# Altium schematic symbol library Integrated Circuits.SchLib: 138 symbols (part 1 of 4)
Pins are listed as number, name and electrical type; pins without a type are passive.

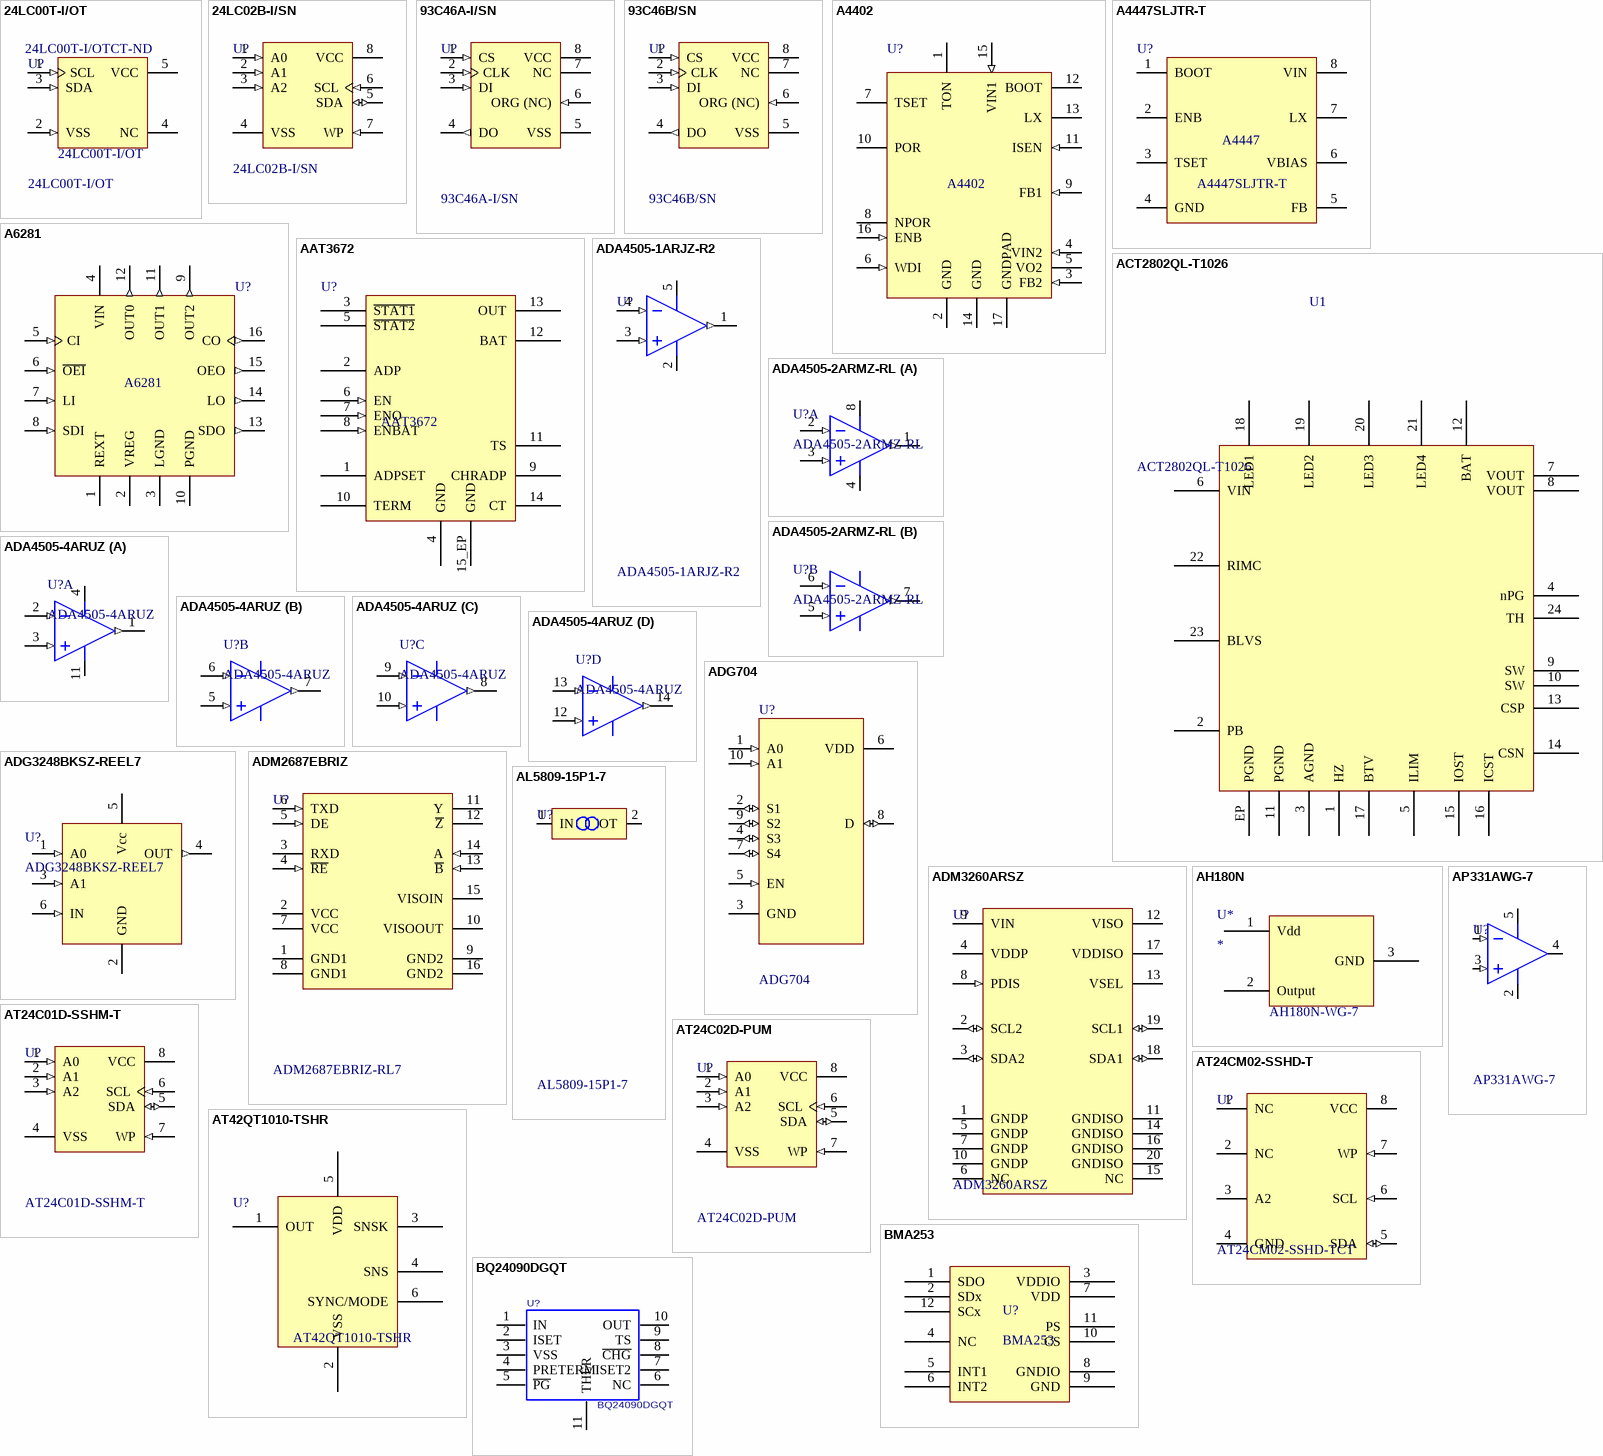
[diagram p0: symbols 24LC00T-I/OT to BQ24090DGQT]

## 24LC00T-I/OT
designator U?  Supplier Part Number 1: 24LC00T-I/OTCT-ND
IC, EEPROM, 128BIT, 400KHz, SOT23-5; Manufacturer: Microchip Technology; PackageDescription: IC EEPROM 128BIT 400KHZ SOT23-5; ComponentLink1Description: Supplier Link; ComponentLink1URL: https://www.digikey.com/products/en?keywords=24LC00T-I/OTCT-ND; HelpURL: http://ww1.microchip.com/downloads/en/DeviceDoc/21178H.pdf; Supplier 1: Digi-Key; Part Number: 24LC00T-I/OT
footprint SOT-23-5 (SOT23-5, 5pin, 3mm x 3mm, 0.95 pitch)
pins: 1 SCL (in), 2 VSS (in), 3 SDA (in), 4 NC, 5 VCC (power)

## 24LC02B-I/SN
designator U?
IC, EEPROM, 2KBIT, 400KHZ, 8-SOIC; Manufacturer: Microchip Technology; Part Number: 24LC02B-I/SN; PackageDescription: SOIC-SN8_N; HelpURL: http://www.mouser.com/ds/2/268/21709c-73893.pdf; ComponentLink1URL: http://www.mouser.com/ProductDetail/Microchip-Technology/24LC02B-I-SN/?qs=qUiwOUCta0cQ%2FYNQD95RlQ%3D%3D
footprint SOIC-8_1.27P4.9X3.9_IPC7351A (SOIC, 8-Leads, Body 4.90x3.90mm, Pitch 1.27mm, IPC High Density)
pins: 1 A0 (in), 2 A1 (in), 3 A2 (in), 4 VSS (power), 5 SDA (io), 6 SCL (in), 7 WP (in), 8 VCC (power)

## 93C46A-I/SN
designator U?
IC, EEPROM 1KBIT, 2MHZ, SPI, 8-SOIC; Manufacturer: Microchip; PackageDescription: 8SOIC; ComponentLink1Description: Supplier Link; ComponentLink1URL: https://www.digikey.com/product-detail/en/microchip-technology/93C46A-I-SN/93C46A-I-SN-ND/560805; PackageReference: 8S1; Part Number: 93C46A-I/SN; HelpURL: http://ww1.microchip.com/downloads/en/DeviceDoc/20001749K.pdf
footprint SOIC-8_1.27P4.9X3.9_IPC7351A (SOIC, 8-Leads, Body 4.90x3.90mm, Pitch 1.27mm, IPC High Density)
footprint SOIC-8_1.27P4.9X3.9_short (SOIC, 8-Leads, Body 4.90x3.90mm, Pitch 1.27mm)
pins: 1 CS (in), 2 CLK (in), 3 DI (in), 4 DO (out), 5 VSS (power), 6 ORG (NC) (in), 7 NC, 8 VCC (power)

## 93C46B/SN
designator U?
IC, EEPROM 1KBIT, 2MHZ, SPI, 8-SOIC; Manufacturer: Microchip; PackageDescription: 8SOIC; ComponentLink1Description: Supplier Link; ComponentLink1URL: https://www.digikey.com/product-detail/en/microchip-technology/93C46B-SN/93C46B-SN-ND/254226; PackageReference: 8S1; Part Number: 93C46B/SN; HelpURL: http://ww1.microchip.com/downloads/en/DeviceDoc/20001749K.pdf
footprint SOIC-8_1.27P4.9X3.9_IPC7351A (SOIC, 8-Leads, Body 4.90x3.90mm, Pitch 1.27mm, IPC High Density)
footprint SOIC-8_1.27P4.9X3.9_short (SOIC, 8-Leads, Body 4.90x3.90mm, Pitch 1.27mm)
pins: 1 CS (in), 2 CLK (in), 3 DI (in), 4 DO (out), 5 VSS (power), 6 ORG (NC) (in), 7 NC, 8 VCC (power)

## A4402
designator U?
IC, Vreg, Buck with Integrated LDO; Manufacturer: Allegro MicroSystems; Part Number: A4402ELPTR-T; PackageReference: LP; PackageDescription: TSSOP; 16pin; 0.65mm pitch; Exposed Thermal Pad; ComponentLink1Description: Manufacturer Link; ComponentLink1URL: http://www.allegromicro.com/; ComponentLink2Description: Datasheet; ComponentLink2URL: http://www.allegromicro.com/~/media/Files/Datasheets/A4402-Datasheet.ashx; HelpURL: C:\Dropbox\Component Datasheets\(U) Integrated Circuits\Voltage Regulators\Allegro A4402.pdf
footprint SOP_65P640x110-17M (TSSOP, 16-Leads, Body 6.4x5.0mm, Pitch 0.65mm, IPC7351)
pins: 1 TON "On time setting terminal", 2 GND (power) "Ground", 3 FB2 (in) "Feedback for VLIN", 4 VIN2 (in) "Input Voltage 2", 5 VO2 (power) "Regulator 2 output", 6 WDI (in) "Watchdog input", 7 TSET "Soft start and watchdog timing capacitor terminal", 8 NPOR (oc) "Fault output", 9 FB1 (in) "Feedback for Vsw", 10 POR "POR Delay", 11 ISEN (in) "Current sense, limit setting for switching regulator", 12 BOOT "Boot node for LX", 13 LX (power) "Switching regulator output", 14 GND (power) "Ground", 15 VIN1 (in) "Input voltage 1", 16 ENB (in) "Enable input", 17 GNDPAD (power)

## A4447SLJTR-T
designator U?
IC, Vreg, Buck, 2.0A ADJ; Manufacturer: Allegro MicroSystems; PackageReference: 8-SOIC-EP; PackageDescription: 8-SOIC (0.154", 3.90mm Width) Exposed Pad; ComponentLink1Description: Supplier Link; ComponentLink1URL: http://www.digikey.com/product-detail/en/A4447SLJTR-T/620-1329-1-ND/2042759; ComponentLink2Description: Datasheet; ComponentLink2URL: http://www.allegromicro.com/~/media/Files/Datasheets/A4402-Datasheet.ashx; HelpURL: C:\Dropbox\Component Datasheets\(U) Integrated Circuits\Voltage Regulators\Allegro A4447.pdf; Part Number: A4447SLJTR-T
footprint SOIC-8_1.27P4.9X3.9_wslug_IPC7351A (SOIC, 8-Leads, Body 4.90x3.90mm, Pitch 1.27mm, IPC High Density)
pins: 1 BOOT "On time setting terminal", 2 ENB "Ground", 3 TSET "Feedback for VLIN", 4 GND (power) "Input Voltage 2", 5 FB "Regulator 2 output", 6 VBIAS "Watchdog input", 7 LX "Soft start and watchdog timing capacitor terminal", 8 VIN (power) "Fault output"
text: A4447

## A6281
designator U?
IC, LED CC Driver, 3-channel; Manufacturer: Allegro MicroSystems; Part Number: A6281EESTR-T; PackageReference: ES; PackageDescription: QFN; 16pin; 3x3mm; ComponentLink1Description: Manufacturer Link; ComponentLink1URL: http://www.allegromicro.com/; ComponentLink2Description: Datasheet; ComponentLink2URL: http://www.allegromicro.com/~/media/Files/Datasheets/A6281-Datasheet.ashx; HelpURL: C:\Dropbox\Component Datasheets\(U) Integrated Circuits\LED Drivers\Allegro A6281.pdf
footprint QFN-16-3x3 (QFN, 16-Leads, Body 3x3mm, Pitch 0.5mm, Thermal Pad 1.7x1.7mm)
pins: 1 REXT, 2 VREG, 3 LGND (power), 4 VIN (power), 5 CI (in), 6 ~{OEI} (in), 7 LI (in), 8 SDI (in), 9 OUT2 (out), 10 PGND (power), 11 OUT1 (out), 12 OUT0 (out), 13 SDO (out), 14 LO (out), 15 OEO (out), 16 CO (out)

## AAT3672
designator U?
IC, Li-ion Charger, 14DFN; Manufacturer: Skyworks; Part Number: AAT3672IWO-4.2-1-T1; PackageReference: 14-TDFN; PackageDescription: TDFN33; 14pin; 0.4mm pitch; Exposed Thermal Pad; ComponentLink1Description: Manufacturer Link; ComponentLink1URL: http://www.skyworksinc.com/; ComponentLink2Description: Datasheet; ComponentLink2URL: http://www.skyworksinc.com/uploads/documents/201880B.pdf; HelpURL: C:\Dropbox\Component Datasheets\(U) Integrated Circuits\Voltage Regulators\Skyworks_AAT3672.pdf
footprint DFN33-14_0.4mm (DFN package, 14pin, 0.4mm)
pins: 1 ADPSET, 2 ADP, 3 ~{STAT1}, 4 GND (power), 5 ~{STAT2}, 6 EN (in), 7 ENO (in), 8 ENBAT (in), 9 CHRADP, 10 TERM, 11 TS, 12 BAT, 13 OUT (power), 14 CT, 15_EP GND (power)

## ACT2802QL-T1026
designator U1
IC, Vreg, Buck-Boost ADJ 2.5A, 24QFN; Manufacturer: Active Semi International; ComponentLink1Description: Manufacturer's Link; ComponentLink2Description: Datasheet; ComponentLink1URL: http://www.active-semi.com/products/dcdc-converters/high-power/act28xx/02/; ComponentLink2URL: http://www.active-semi.com/sheets/ACT2802_Datasheet.pdf; PackageDescription: 24-VFQFN Exposed Pad; PackageReference: 24-QFN (4x4); Part Number: ACT2802QL-T1026
footprint QFN4X4-24 (Quad Flat No Lead, Plastic; 24 Terminals; Body 4 x 4 mm; Pitch 0.5 mm)
pins: 1 HZ, 2 PB, 3 AGND, 4 nPG, 5 ILIM, 6 VIN, 7 VOUT, 8 VOUT, 9 SW, 10 SW, 11 PGND, 12 BAT, 13 CSP, 14 CSN, 15 IOST, 16 ICST, 17 BTV, 18 LED1, 19 LED2, 20 LED3, 21 LED4, 22 RIMC, 23 BLVS, 24 TH, EP PGND

## ADA4505-1ARJZ-R2
designator U?
IC, Op-Amp, Single, Vsupp 1.8-5V, R to R, Low Power; Manufacturer: Analog Devices; PackageReference: RJ-5; PackageDescription: IC OPAMP VFB 50KHZ RRO SOT23-5; ComponentLink1Description: Supplier Link; ComponentLink1URL: http://www.digikey.com/product-detail/en/analog-devices-inc/ADA4505-1ARJZ-R2/ADA4505-1ARJZ-R2CT-ND/2237765; HelpURL: http://www.analog.com/media/en/technical-documentation/data-sheets/ADA4505-1_4505-2_4505-4.pdf; Part Number: ADA4505-1ARJZ-R2
footprint SOT-23-5 (SOT23-5, 5pin, 3mm x 3mm, 0.95 pitch)
pins: 1 OUT (out), 2 -V (power), 3 +IN (in), 4 -IN (in), 5 +V (power)

## ADA4505-2ARMZ-RL
designator U?
IC, Op-Amp, Dual, Vsupp 1.8-5V, R to R, Low Power; Manufacturer: Analog Devices; ComponentLink1Description: Supplier Link; ComponentLink1URL: http://www.digikey.com/product-detail/en/analog-devices-inc/ADA4505-2ARMZ-RL/ADA4505-2ARMZ-RLCT-ND/1938233; HelpURL: http://www.analog.com/media/en/technical-documentation/data-sheets/ADA4505-1_4505-2_4505-4.pdf; PackageDescription: IC OPAMP VFB 50KHZ RRO 8MSOP; PackageReference: RM-8; Part Number: ADA4505-2ARMZ-RL
footprint TSSOP-8_0.65P2.8X2.9 (TSOP, 8-Leads, Body 2.8x2.9mm, Pitch 0.65mm)
part A pins: 1 OUT A (out), 2 -IN A (in), 3 +IN A (in), 4 -V (power), 8 +V (power)
part B pins: 4 -V (power) hidden, 5 +IN B (in), 6 -IN B (in), 7 OUT B (out), 8 +V (power) hidden

## ADA4505-4ARUZ
designator U?
IC, Op-Amp, Quad, Vsupp 1.8-5V, R to R, Low Power; Manufacturer: Analog Devices; ComponentLink1Description: Supplier Link; ComponentLink1URL: http://www.digikey.com/product-detail/en/analog-devices-inc/ADA4505-4ARUZ/ADA4505-4ARUZ-ND/1972282; HelpURL: http://www.analog.com/media/en/technical-documentation/data-sheets/ADA4505-1_4505-2_4505-4.pdf; PackageDescription: IC OPAMP VFB 50KHZ RRO 14TSSOP; PackageReference: RU-14; Part Number: ADA4505-4ARUZ
footprint TSSOP-14_0.65P5x4.4 (SOP, 14-Leads, Body 5x4.4mm, Pitch 0.65mm, IPC Medium Density)
part A pins: 1 OUT A (out), 2 -IN A (in), 3 +IN A (in), 4 +V (power), 11 -V (power)
part B pins: 5 +IN B (in), 6 -IN B (in), 7 OUT B (out)
part C pins: 8 OUT C (out), 9 -IN C (in), 10 +IN C (in)
part D pins: 12 +IN D (in), 13 -IN D (in), 14 OUT D (out)

## ADG704
designator U?
IC, 4-Channel Analog Multiplexer/Demultiplexer; Manufacturer: Analog Devices; PackageReference: *; PackageDescription: *; ComponentLink1Description: Supplier Link; ComponentLink1URL: http://www.digikey.com/product-detail/en/ADG704BRMZ/ADG704BRMZ-ND/820103; HelpURL: *; Part Number: ADG704
footprint MSOP-10_0.5P3x3_RM-10 (SOP, 10-Leads, Body 3x3mm, Pitch 0.5mm, IPC Medium Density)
pins: 1 A0 (in), 2 S1 (io), 3 GND (power), 4 S3 (io), 5 EN (in), 6 VDD (power), 7 S4 (io), 8 D (io), 9 S2 (io), 10 A1 (in)

## ADG3248BKSZ-REEL7
designator U?
IC, mux/demux switch, 2:1; Manufacturer: Analog Devices; ComponentLink1Description: Supplier Link; ComponentLink1URL: http://www.digikey.com/product-detail/en/ADG3248BKSZ-REEL7/ADG3248BKSZ-REEL7CT-ND/1633919; HelpURL: http://www.analog.com/media/en/technical-documentation/data-sheets/ADG3248.pdf; PackageDescription: IC MUX/DEMUX 2X1 SC70-6; PackageReference: SC70; Part Number: ADG3248BKSZ-REEL7
pins: 1 A0 (in), 2 GND (power), 3 A1 (in), 4 OUT (out), 5 Vcc (power), 6 IN (in)

## ADM2687EBRIZ
designator U?, comment ADM2687EBRIZ-RL7
IC, Isolator 5KV w/PWR, RS485 Full Dplx, 16-SOIC; Manufacturer: Analog Devices; PackageReference: *; PackageDescription: 16-SOIC; ComponentLink1Description: Supplier Link; ComponentLink1URL: http://www.digikey.com/product-detail/en/analog-devices-inc/ADM2687EBRIZ-RL7/ADM2687EBRIZ-RL7CT-ND/4162359; HelpURL: http://www.analog.com/media/en/technical-documentation/data-sheets/ADM2682E_2687E.pdf; Part Number: ADM2687EBRIZ-RL7
footprint SOIC-16_1.27P7.5x12.75 (SOIC, 16-Leads, Body 7.5x12.75mm, Pitch 1.27mm)
pins: 1 GND1 (power) "Ground, Logic Side.", 2 VCC (power) "Logic Side Power Supply. It is recommended that a 0.1 µF and a 0.01 µF decoupling capacitor be fitted between Pin 2 and Pin 1.", 3 RXD (hiz) "Receiver Output Data. This output is high when (A - B) >= -30 mV and low when (A - B) <= –200 mV. The output is tristated when the receiver is disabled, that is, when R\E\ is driven high.", 4 ~{RE} (in) "Receiver Enable Input. This is an active-low input. Driving this input low enables the receiver, while driving it high disables the receiver.", 5 DE (in) "Driver Enable Input. Driving this input high enables the driver, while driving it low disables the driver.", 6 TXD (in) "Driver Input. Data to be transmitted by the driver is applied to this input.", 7 VCC (power) "Logic Side Power Supply. It is recommended that a 0.1 µF and a 10 µF decoupling capacitor be fitted between Pin 7 and Pin 8.", 8 GND1 (power) "Ground, Logic Side.", 9 GND2 (power) "Ground, Bus Side.", 10 VISOOUT (power) "Isolated Power Supply Output. This pin must be connected externally to VISOIN. It is recommended that a reservoir capacitor of 10 µF and a decoupling capacitor of 0.1 µF be fitted between Pin 10 and Pin 9.", 11 Y (hiz) "Driver Noninverting Output", 12 ~{Z} (hiz) "Driver Inverting Output", 13 ~{B} (in) "Receiver Inverting Input.", 14 A (in) "Receiver Noninverting Input.", 15 VISOIN (power) "Isolated Power Supply Input. This pin must be connected externally to VISOOUT. It is recommended that a 0.1 µF and a 0.01 µF decoupling capacitor be fitted between Pin 15 and Pin 16.", 16 GND2 (power) "Ground, Bus Side."

## ADM3260ARSZ
designator U?
IC, Isolator 2.5KV w/PWR, I2C 2-CH, 20-SSOP; Manufacturer: Analog Devices; PackageReference: *; PackageDescription: 20-SSOP; ComponentLink1Description: Supplier Link; ComponentLink1URL: https://www.digikey.com/product-detail/en/analog-devices-inc/ADM3260ARSZ/ADM3260ARSZ-ND/4863478; HelpURL: http://www.analog.com/media/en/technical-documentation/data-sheets/ADM3260.pdf; Part Number: ADM3260ARSZ
footprint TSSOP-20_0.65P5.3x7.2 (SOP, 20-Leads, Body 7.2x5.3mm, Pitch 0.65mm, IPC Medium Density)
pins: 1 GNDP (power) "Ground Reference for Primary Side.", 2 SCL2 (io) "Clock Input/Output, Primary Side.", 3 SDA2 (io) "Data Input/Output, Primary Side.", 4 VDDP (power) "Digital Isolator Primary Supply Input, 3.0 V to 5.5 V.", 5 GNDP (power) "Ground Reference for Primary Side.", 6 NC, 7 GNDP (power) "Ground Reference for Primary Side.", 8 PDIS (in) "Power Disable. Tie to GNDP to activate.", 9 VIN (power) "isoPower Converter Primary Supply Input, 3.0 V to 5.5 V.", 10 GNDP (power) "Ground Reference for Primary Side.", 11 GNDISO (power) "Ground Reference for Isolated Side.", 12 VISO (power) "Secondary Supply Voltage Output for Digital Isolator Isolated Side Power and External Loads.", 13 VSEL "Output Voltage Set.", 14 GNDISO (power) "Ground Reference for Isolated Side.", 15 NC, 16 GNDISO (power) "Ground Reference for Isolated Side.", 17 VDDISO (power) "Digital Isolator Isolated Side Supply Input, 3.0 V to 5.5 V.", 18 SDA1 (io) "Data Input/Output, Isolated Side.", 19 SCL1 (io) "Clock Input/Output, Isolated Side.", 20 GNDISO (power) "Ground Reference for Isolated Side."

## AH180N
designator U*  PartNumber: AH180N-WG-7
IC, Hall Effect Switch, AH180N, SOT23; Manufacturer: Diodes Inc; ComponentLink1Description: Supplier Link; ComponentLink1URL: http://www.digikey.com/product-detail/en/diodes-incorporated/AH180N-WG-7/AH180N-WG-7DICT-ND/2334666
footprint Q_SOT23-3 (SOT23, 3-Leads, Body 3.016x2.8mm, Pitch 0.95mm)
pins: 1 Vdd, 2 Output, 3 GND

## AL5809-15P1-7
designator U?
IC, LED Driver, Single, Fixed 15mA Drive, POWERDI123; Manufacturer: Diodes Inc.; PackageReference: POWERDI 123; PackageDescription: IC LED DRVR LIN PWM 15MA PDI12; ComponentLink1Description: Supplier Link; ComponentLink1URL: http://www.digikey.com/product-detail/en/diodes-incorporated/AL5809-15P1-7/AL5809-15P1-7DICT-ND/5030226; HelpURL: http://www.diodes.com/_files/datasheets/AL5809.pdf; Part Number: AL5809-15P1-7
footprint POWERDI123 (Power DI 123 package from Diodes)
pins: 1 IN, 2 OT

## AP331AWG-7
designator U?
IC, Comparator, Single, Open Collector, 2-36V,  SOT23-5; Manufacturer: Diodes; Populate: Y; PackageDescription: SOT-23-5, SC-74A, SOT-753; ComponentLink1Description: Supplier Link; ComponentLink1URL: https://www.digikey.com/product-detail/en/diodes-incorporated/AP331AWG-7/AP331AWGDICT-ND/2095605; Part Number: AP331AWG-7; HelpURL: https://www.diodes.com/assets/Datasheets/AP331A.pdf
footprint SOT-23-5 (SOT23-5, 5pin, 3mm x 3mm, 0.95 pitch)
pins: 1 VIN+ (in), 2 VDD (power), 3 VIN- (in), 4 OUT (oc), 5 VSS (power)

## AT24C01D-SSHM-T
designator U?
IC, EEPROM 1KBIT, 1MHZ, I2C, 8-SOIC; Manufacturer: Microchip; PackageDescription: IC EEPROM 1KBIT 1MHZ 8SOIC; ComponentLink1Description: Supplier Link; ComponentLink1URL: http://www.digikey.com/product-detail/en/atmel/AT24C01D-SSHM-T/AT24C01D-SSHM-TCT-ND/4914393; PackageReference: 8S1; Part Number: AT24C01D-SSHM-T; HelpURL: http://ww1.microchip.com/downloads/en/DeviceDoc/Atmel-8871F-SEEPROM-AT24C01D-02D-Datasheet.pdf
footprint SOIC-8_1.27P4.9X3.9_IPC7351A (SOIC, 8-Leads, Body 4.90x3.90mm, Pitch 1.27mm, IPC High Density)
footprint SOIC-8_1.27P4.9X3.9_short (SOIC, 8-Leads, Body 4.90x3.90mm, Pitch 1.27mm)
pins: 1 A0 (in), 2 A1 (in), 3 A2 (in), 4 VSS (power), 5 SDA (io), 6 SCL (in), 7 WP (in), 8 VCC (power)

## AT24C02D-PUM
designator U?
IC, EEPROM 2KBIT, 1MHZ, I2C, 8-PDIP; Manufacturer: Atmel; PackageDescription: 1.7-3.6V, 1MHZ, IND TMP, 8-PDIP; ComponentLink1Description: Supplier Link; ComponentLink1URL: http://www.digikey.com/product-search/en?keywords=AT24C02D-PUM; PackageReference: 8P3; Part Number: AT24C02D-PUM; HelpURL: http://www.atmel.com/Images/Atmel-8871-SEEPROM-AT24C01D-02D-Datasheet.pdf
footprint PDIP-8_7.8x9.2mm (8 Pin PDIP package, 7.8x9.2mm)
pins: 1 A0 (in), 2 A1 (in), 3 A2 (in), 4 VSS (power), 5 SDA (io), 6 SCL (in), 7 WP (in), 8 VCC (power)

## AT24CM02-SSHD-T
designator U?, comment AT24CM02-SSHD-TCT
IC, EEPROM 2MBIT, 1MHZ, I2C, 8-SOIC; Manufacturer: Atmel; PackageDescription: 2.5-5.5V, 1MHZ, IND TMP, 8-SOIC-; ComponentLink1Description: Supplier Link; ComponentLink1URL: http://www.digikey.com/product-detail/en/atmel/AT24CM02-SSHD-T/AT24CM02-SSHD-TCT-ND/5313452; PackageReference: 8S1; Part Number: AT24CM02-SSHD-TCT; HelpURL: http://www.atmel.com/images/atmel-8828-seeprom-at24cm02-datasheet.pdf
footprint SOIC-8_1.27P4.9X3.9_IPC7351A (SOIC, 8-Leads, Body 4.90x3.90mm, Pitch 1.27mm, IPC High Density)
footprint SOIC-8_1.27P4.9X3.9_short (SOIC, 8-Leads, Body 4.90x3.90mm, Pitch 1.27mm)
pins: 1 NC (power) "Supply Voltage Input", 2 NC, 3 A2, 4 GND, 5 SDA (io) "Ground", 6 SCL (in), 7 WP (in), 8 VCC (power)

## AT42QT1010-TSHR
designator U?
IC, Touch Sensor 1 Key, SOT23-6; Manufacturer: Atmel; PackageReference: SOT23-6; PackageDescription: SOT23-6; ComponentLink1Description: Supplier Link; ComponentLink1URL: http://www.digikey.com/product-detail/en/AT42QT1010-TSHR/AT42QT1010-TSHRCT-ND/2268871; ComponentLink2Description: Datasheet; HelpURL: C:\Users\jmrosino\Dropbox (Personal)\Component Datasheets\(U) Integrated Circuits\Cap Sense\Atmel_BSW-AT42QT1010.pdf; Part Number: AT42QT1010-TSHR
footprint SOT23-6 (SOT23, 6-Leads, Body 3x1.5mm, Pitch 1mm, Lead Span 2.7mm, IPC Medium Density)
pins: 1 OUT, 2 VSS, 3 SNSK, 4 SNS, 5 VDD (power), 6 SYNC/MODE

## BMA253
designator U?
IC, Triaxial Accelerometer, Digital, 2/4/8/16g, LGA12 2x2x0.95mm; Manufacturer: Bosch Sensortec; ComponentLink1URL: http://www.mouser.com/ProductDetail/Bosch-Sensortec/BMA253/?qs=sGAEpiMZZMtI26rxh1qzjupD02krJMwcL%252biMV3whAMk%3d; ComponentLink1Description: Supplier Link; HelpURL: https://ae-bst.resource.bosch.com/media/_tech/media/datasheets/BST-BMA253-DS000-01.pdf; Part Number: BMA253; PackageDescription: LGA12, 2mm x 2mm
footprint LGA-12_N (LGA, 12-Leads, Body 2.00x2.00mm, Pitch 0.5mm)
pins: 1 SDO, 2 SDx, 3 VDDIO, 4 NC, 5 INT1, 6 INT2, 7 VDD, 8 GNDIO, 9 GND, 10 CS, 11 PS, 12 SCx

## BQ24090DGQT
designator U?
IC, Batt Charger, LI-ION, 10MSOP; Manufacturer: TEXAS INSTRUMENTS; PartDescription: IC BATT CHRGR LI-ION 10MSOP; Current Rating: 1A; Voltage Rating: 4V2 Charge Voltage; Value: BQ24090DGQT; ComponentLink1Description: Supplier Link; ComponentLink1URL: http://www.digikey.com/product-detail/en/texas-instruments/BQ24090DGQT/296-25863-1-ND/2237301; HelpURL: http://www.ti.com/lit/ds/symlink/bq24092.pdf; Part Number: BQ24090DGQT
footprint MSOP-10 (10-MSOP-PowerPad 3x3 mm)
pins: 1 IN, 2 ISET, 3 VSS, 4 PRETERM, 5 ~{PG}, 6 NC, 7 ISET2, 8 ~{CHG}, 9 TS, 10 OUT, 11 THER

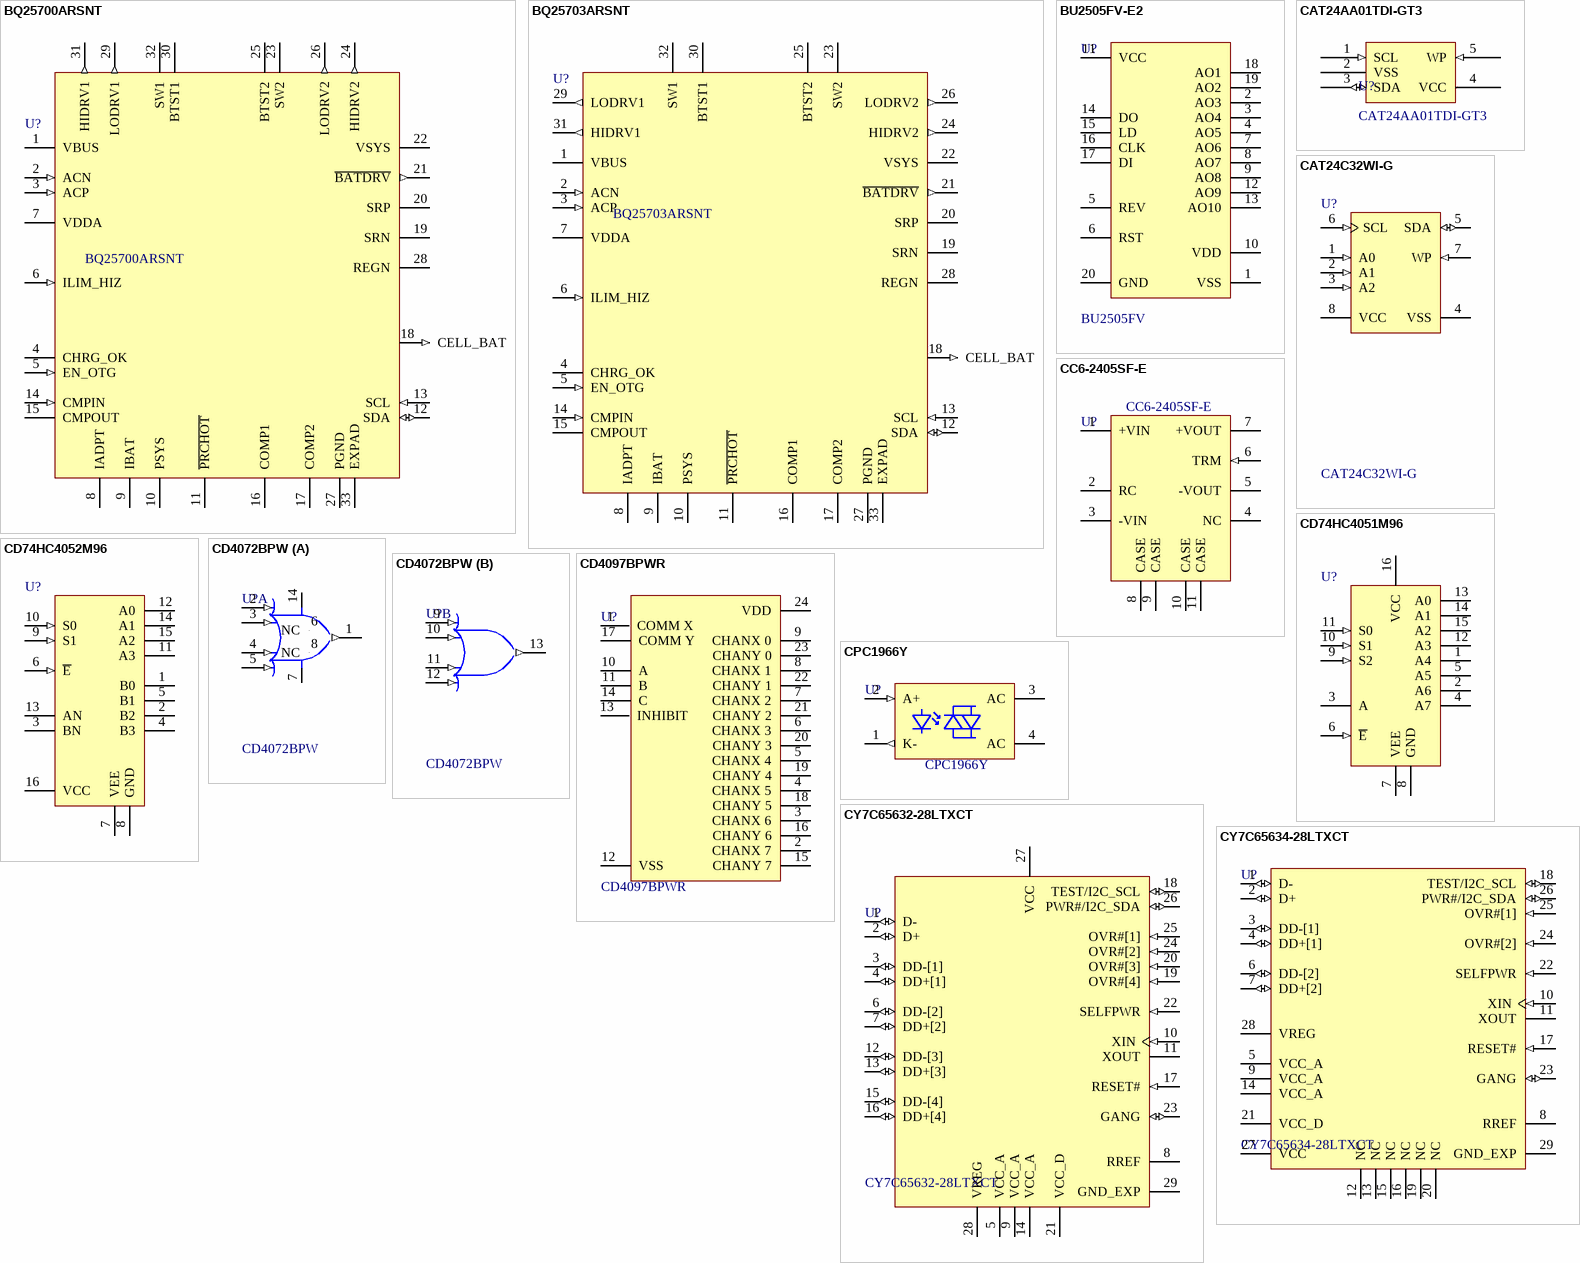
[diagram p1: symbols BQ25700ARSNT to CY7C65634-28LTXCT]

## BQ25700ARSNT
designator U?
IC, Batt Charger/Management, SMBus, Buck-Boost, 1 to 4S Cell, 6.35A max; Manufacturer: Texas Instruments; PackageDescription: 32-WQFN; ComponentLink1Description: Supplier Link; ComponentLink1URL: http://www.mouser.com/ProductDetail/Texas-Instruments/BQ25700ARSNT/?qs=sGAEpiMZZMsfD%252bbMpEGFJWwRWhpSl39LfLWP02FJG84%3d; HelpURL: http://www.ti.com/lit/ds/symlink/bq25700a.pdf; Part Number: BQ25700ARSNT
footprint QFN-32_4x4_EXP (QFN, 32-Leads, Body 4x4mm, Pitch 0.4mm, Thermal Pad, IPC Medium Density)
pins: 1 VBUS (power) "Charger input voltage.", 2 ACN (in) "Negative differential input", 3 ACP (in) "Positive differential input", 4 CHRG_OK (oc) "Open drain active high indicator to inform the system good power source is connected to the  charger input.", 5 EN_OTG (in) "Active HIGH to enable OTG mode.", 6 ILIM_HIZ (in) "Input current limit input.", 7 VDDA (power) "Internal reference bias pin.", 8 IADPT "Buffered adapter current output.", 9 IBAT "Buffered battery current selected by SMBus.", 10 PSYS "Current mode system power monitor.", 11 ~{PRCHOT} (oc) "Active low open drain output of processor hot indicator.", 12 SDA (io) "SMBus open-drain data I/O.", 13 SCL (in) "SMBus clock input.", 14 CMPIN (in) "Input of independent comparator.", 15 CMPOUT (oc) "Open-drain output of independent comparator", 16 COMP1 "Buck boost converter compensation pin 1.", 17 COMP2 "Buck boost converter compensation pin 2.", 18 CELL_BAT (in) "Battery cell selection pin for 1–4 cell battery setting.", 19 SRN (power) "Charge current sense resistor negative input.", 20 SRP (power) "Charge current sense resistor positive input.", 21 ~{BATDRV} (out) "P-channel battery FET (BATFET) gate driver output.", 22 VSYS (power) "Charger system voltage sensing.", 23 SW2 (power) "Boost mode high side power MOSFET driver source.", 24 HIDRV2 (out) "Boost mode high side power MOSFET(Q4) driver.", 25 BTST2 (power) "Boost mode high side power MOSFET driver power supply.", 26 LODRV2 (out) "Boost mode low side power MOSFET (Q3) driver.", 27 PGND (power) "Device power ground.", 28 REGN (power) "6-V linear regulator output supplied from VBUS or VSYS.", 29 LODRV1 (out) "Buck mode low side power MOSFET (Q2) driver.", 30 BTST1 (power) "Buck mode high side power MOSFET driver power supply.", 31 HIDRV1 (out) "Buck mode high side power MOSFET (Q1) driver.", 32 SW1 (power) "Buck mode high side power MOSFET driver source.", 33 EXPAD (power) "Device power ground."

## BQ25703ARSNT
designator U?
IC, Batt Charger/Management, I2C, Buck-Boost, 1 to 4S Cell, 6.35A max; Manufacturer: Texas Instruments; PackageDescription: 32-WQFN; ComponentLink1Description: Supplier Link; ComponentLink1URL: http://www.mouser.com/ProductDetail/Texas-Instruments/BQ25703ARSNT/?qs=sGAEpiMZZMsfD%252bbMpEGFJWwRWhpSl39LQFCGT%2fyAkO0%3d; HelpURL: http://www.ti.com/lit/ds/symlink/bq25703a.pdf; Part Number: BQ25703ARSNT
footprint QFN-32_4x4_EXP (QFN, 32-Leads, Body 4x4mm, Pitch 0.4mm, Thermal Pad, IPC Medium Density)
pins: 1 VBUS (power) "Charger input voltage.", 2 ACN (in) "Negative differential input", 3 ACP (in) "Positive differential input", 4 CHRG_OK (oc) "Open drain active high indicator to inform the system good power source is connected to the  charger input.", 5 EN_OTG (in) "Active HIGH to enable OTG mode.", 6 ILIM_HIZ (in) "Input current limit input.", 7 VDDA (power) "Internal reference bias pin.", 8 IADPT "Buffered adapter current output.", 9 IBAT "Buffered battery current selected by SMBus.", 10 PSYS "Current mode system power monitor.", 11 ~{PRCHOT} (oc) "Active low open drain output of processor hot indicator.", 12 SDA (io) "SMBus open-drain data I/O.", 13 SCL (in) "SMBus clock input.", 14 CMPIN (in) "Input of independent comparator.", 15 CMPOUT (oc) "Open-drain output of independent comparator", 16 COMP1 "Buck boost converter compensation pin 1.", 17 COMP2 "Buck boost converter compensation pin 2.", 18 CELL_BAT (in) "Battery cell selection pin for 1–4 cell battery setting.", 19 SRN (power) "Charge current sense resistor negative input.", 20 SRP (power) "Charge current sense resistor positive input.", 21 ~{BATDRV} (out) "P-channel battery FET (BATFET) gate driver output.", 22 VSYS (power) "Charger system voltage sensing.", 23 SW2 (power) "Boost mode high side power MOSFET driver source.", 24 HIDRV2 (out) "Boost mode high side power MOSFET(Q4) driver.", 25 BTST2 (power) "Boost mode high side power MOSFET driver power supply.", 26 LODRV2 (out) "Boost mode low side power MOSFET (Q3) driver.", 27 PGND (power) "Device power ground.", 28 REGN (power) "6-V linear regulator output supplied from VBUS or VSYS.", 29 LODRV1 (out) "Buck mode low side power MOSFET (Q2) driver.", 30 BTST1 (power) "Buck mode high side power MOSFET driver power supply.", 31 HIDRV1 (out) "Buck mode high side power MOSFET (Q1) driver.", 32 SW1 (power) "Buck mode high side power MOSFET driver source.", 33 EXPAD (power) "Device power ground."

## BU2505FV-E2
designator U?, comment BU2505FV
IC, 10-Channel DAC, 10bit; Manufacturer: Rohm Semiconductor; Part Number: BU2505FV-E2; PackageReference: *; PackageDescription: SSOP-20; ComponentLink1Description: Supplier Link; ComponentLink1URL: http://www.digikey.com/product-detail/en/BU2505FV-E2/BU2505FV-E2CT-ND/1158705; HelpURL: C:\Dropbox\Component Datasheets\(U) Integrated Circuits\DAC\Rohm_bu2506fv-e.pdf
footprint TSSOP-B20_0.65P6.5X4.4 (SOP, 20-Leads, Body 6.5x4.4mm, Pitch 0.65mm)
pins: 1 VSS, 2 AO3 (power), 3 AO4 (power), 4 AO5 (power), 5 REV, 6 RST, 7 AO6, 8 AO7, 9 AO8, 10 VDD, 11 VCC, 12 AO9, 13 AO10, 14 DO, 15 LD, 16 CLK, 17 DI, 18 AO1, 19 AO2, 20 GND

## CAT24AA01TDI-GT3
designator U?
IC, EEPROM 1KBIT,  1MHZ, I2C, TSOT-23; Manufacturer: On-Semi; ComponentLink1URL: https://www.onsemi.com/pub/Collateral/CAT24AA01-D.PDF; ComponentLink1Description: Datasheet; Part Number: CAT24AA01TDI-GT3; Package Description: TSOT-23-5
footprint SOT-23-5, AltopaEEPROMVersion (SOT23-5, 5pin, 3mm x 3mm, 0.95 pitch)
pins: 1 SCL (in) "Clock Input", 2 VSS (power) "Ground", 3 SDA (io) "Serial Data/Address", 4 VCC (power) "Power Supply", 5 WP (in) "Write Protect"

## CAT24C32WI-G
designator U?
IC, EEPROM 32KBIT, 400KHZ, 8SOIC; Manufacturer: On Semi; PackageReference: *; PackageDescription: 8-SOIC; ComponentLink1Description: Supplier Link; ComponentLink1URL: http://www.digikey.com/products/en?mpart=CAT24C32WI-G&v=488; HelpURL: http://www.onsemi.com/pub/Collateral/CAT24C32-D.PDF; Part Number: CAT24C32WI-G
footprint ONSC-SOIC-8-751BD-01_N (SOIC, 8-Leads, Body 4.90x3.90mm, Pitch 1.27mm, IPC Medium Density)
pins: 1 A0 (in) "Device Address", 2 A1 (in) "Device Address", 3 A2 (in) "Device Address", 4 VSS (power) "Ground", 5 SDA (io) "Serial Data", 6 SCL (in) "Serial Clock", 7 WP (in) "Write Protect", 8 VCC (power) "Power Supply"

## CC6-2405SF-E
designator U?
IC, DC to DC Converter, 6W, Single 24V input, 5V output 1.2A; Manufacturer: TDK-Lambda; PackageDescription: DIP; PackageReference: CC10-F-E; ComponentLink1URL: http://www.digikey.com/product-detail/en/CC6-2405SF-E/445-2491-ND/920451; ComponentLink1Description: Supplier Link; PartNumber: CC6-2405SF-E
footprint CC6-F-E DIP (TDK Lambda DC to DC can Pckg)
pins: 1 +VIN (power), 2 RC "Receiver Enable. A low input enables the receiver. A high input forces the receiver output into a high impedance state. If R\E\ is high with DE low, the part will enter a low power shutdown state.", 3 -VIN (power), 4 NC, 5 -VOUT (power), 6 TRM (in), 7 +VOUT (power), 8 CASE, 9 CASE, 10 CASE, 11 CASE

## CD74HC4051M96
designator U?
IC, MUX/DEMUX, 8X1, 16SOIC; Manufacturer: Texas Instruments; Part Number: CD74HC4051M96; PackageDescription: IC MUX/DEMUX 8X1 16SOIC; PackageReference: 16 SOIC; ComponentLink1URL: http://www.digikey.com/product-detail/en/texas-instruments/CD74HC4051M96/296-14530-1-ND/555578; ComponentLink1Description: Supplier Link; HelpURL: http://www.ti.com/lit/ds/symlink/cd74hc4051.pdf
footprint D0016A_N (SOIC, 16-Leads, Body 10x4mm, Pitch 1.27mm, IPC Medium Density)
pins: 1 A4, 2 A6, 3 A, 4 A7, 5 A5, 6 ~{E} (in), 7 VEE (power), 8 GND (power), 9 S2 (in), 10 S1 (in), 11 S0 (in), 12 A3, 13 A0, 14 A1, 15 A2, 16 VCC (power)

## CD74HC4052M96
designator U?
IC, MUX/DEMUX, DUAL 4X1 16SOIC; Manufacturer: Texas Instruments; Part Number: CD74HC4052M96; PackageDescription: IC MUX/DEMUX DUAL 4X1 16SOIC; PackageReference: 16 SOIC; ComponentLink1URL: http://www.digikey.com/product-detail/en/texas-instruments/CD74HC4052M96/296-14531-1-ND/555570; ComponentLink1Description: Supplier Link; HelpURL: http://www.ti.com/lit/ds/symlink/cd74hc4051.pdf
footprint D0016A_N (SOIC, 16-Leads, Body 10x4mm, Pitch 1.27mm, IPC Medium Density)
pins: 1 B0, 2 B2, 3 BN, 4 B3, 5 B1, 6 ~{E} (in), 7 VEE (power), 8 GND (power), 9 S1 (in), 10 S0 (in), 11 A3, 12 A0, 13 AN, 14 A1, 15 A2, 16 VCC (power)

## CD4072BPW
designator U?
IC, OR Gate, Dual Channel, 4 Input; Manufacturer: Texas Instruments; PackageDescription: IC GATE OR 2CH 4-INP 14-TSSOP; ComponentLink1Description: Supplier Link; ComponentLink1URL: http://www.digikey.com/product-detail/en/texas-instruments/CD4072BPW/296-32907-5-ND/1691326; PackageReference: 14-TSSOP; Part Number: CD4072BPW; HelpURL: http://www.ti.com/lit/ds/symlink/cd4071b.pdf
footprint TSSOP-14_0.65P5x4.4 (SOP, 14-Leads, Body 5x4.4mm, Pitch 0.65mm, IPC Medium Density)
part A pins: 1 J (out), 2 A (in), 3 B (in), 4 C (in), 5 D (in), 6 NC, 7 VSS (power), 8 NC, 14 VDD (power)
part B pins: 9 E (in), 10 F (in), 11 G (in), 12 H (in), 13 K (out)

## CD4097BPWR
designator U?
IC, MUX 8:1, 240 OHM, 24TSSOP; Manufacturer: Texas Instrument; PackageReference: 24-TSSOP; PackageDescription: IC MUX 8:1 240 OHM 24TSSOP; ComponentLink1Description: Supplier Link; ComponentLink1URL: http://www.digikey.com/products/en/integrated-circuits-ics/interface-analog-switches-multiplexers-demultiplexers/747?k=cd4097b&k=&pkeyword=cd4097b&pv7=2&pv1989=0&mnonly=0&newproducts=0&ColumnSort=0&page=1&quantity=0&ptm=0&fid=0&pageSize=25; HelpURL: http://www.ti.com/lit/ds/symlink/cd4067b.pdf; Part Number: CD4097BPWR
footprint TSSOP-24_0.65P4.4X7.8_IPC7351A (SOP, 24-Leads, Body 7.8x4.4mm, Pitch 0.65mm, IPC High Density)
pins: 1 COMM X, 2 CHANX 7, 3 CHANX 6, 4 CHANX 5, 5 CHANX 4, 6 CHANX 3, 7 CHANX 2, 8 CHANX 1, 9 CHANX 0, 10 A, 11 B, 12 VSS, 13 INHIBIT, 14 C, 15 CHANY 7, 16 CHANY 6, 17 COMM Y, 18 CHANY 5, 19 CHANY 4, 20 CHANY 3, 21 CHANY 2, 22 CHANY 1, 23 CHANY 0, 24 VDD

## CPC1966Y
designator U?
IC, Opto SCR, SPST-no, 3.75KVISO, 8-sip, 4 Leads; Manufacturer: IXYS Integrated Circuits; PackageDescription: 8-SIP/4 Lead; PackageReference: SIP; ComponentLink1URL: http://www.digikey.com/product-detail/en/ixys-integrated-circuits-division/CPC1966Y/CLA393-ND/3077524; ComponentLink1Description: Supplier Link; Part Number: CPC1966Y
footprint SIP-8_4LEAD (4 PIN IPAQ)
pins: 1 K- (out), 2 A+ (in), 3 AC, 4 AC

## CY7C65632-28LTXCT
designator U?
IC, USB 2.0 Hub, 1up, 4 down; Manufacturer: Cypress Semiconductor; PackageReference: 28-WFQFN Exposed Pad; PackageDescription: 28-QFN; ComponentLink1Description: Supplier Link; ComponentLink1URL: http://www.digikey.com/product-detail/en/cypress-semiconductor-corp/CY7C65634-28LTXCT/428-3154-1-ND/3131116; HelpURL: http://media.digikey.com/pdf/Data%20Sheets/Cypress%20PDFs/CY7C65632,34.pdf; Part Number: CY7C65632-28LTXCT
footprint QFN-28_5.1x5.1_EXP (QFN, 28-Leads, Body 5.1x5.1mm, Pitch 0.6mm, Thermal Pad 3.6X3.6mm, IPC Medium Density)
pins: 1 D- (io) "Upstream D- Signal.", 2 D+ (io) "Upstream D+ Signal.", 3 DD-[1] (io) "?Downstream D- Signal.", 4 DD+[1] (io) "Downstream D+ Signal.", 5 VCC_A (power) "VCC_A. 3.3 V analog power to the chip.", 6 DD-[2] (io) "Downstream D- Signal.", 7 DD+[2] (io) "Downstream D+ Signal.", 8 RREF "649 ohm resistor must be connected between RREF and Ground", 9 VCC_A (power) "VCC_A. 3.3 V analog power to the chip.", 10 XIN (in) "12 MHz crystal clock input, or 12 MHz clock input", 11 XOUT "12 MHz Crystal OUT", 12 DD-[3] (io) "Downstream D- Signal. NC in CY7C65634.", 13 DD+[3] (io) "Downstream D+ Signal. NC in CY7C65634.", 14 VCC_A (power) "VCC_A. 3.3 V analog power to the chip.", 15 DD-[4] (io) "Downstream D- Signal. NC in CY7C65634.", 16 DD+[4] (io) "Downstream D+ Signal. NC in CY7C65634.", 17 RESET# (in) "Active LOW Reset. External reset input, default pull high 10 kohm; When RESET = low, whole chip is reset to the initial state", 18 TEST/I2C_SCL (io) "?Test: 0: Normal Operation & 1: Chip will be put in test mode I2C_SCL: I2C Clock pin.", 19 OVR#[4] (in) "Overcurrent Condition Detection Input. Default is Active LOW. NC in CY7C65634.", 20 OVR#[3] (in) "Overcurrent Condition Detection Input. Default is Active LOW. NC in CY7C65634.", 21 VCC_D (power) "VCC_D. 3.3 V digital power to the chip.", 22 SELFPWR (in) "Self Power. Input for selecting self/bus power. 0 is bus powered, 1 is self powered.", 23 GANG (io) "GANG. Default is input mode after power-on-reset. Gang Mode: Input:1 -> Output is 0 for Normal Operation and 1 for Suspend Individual Mode: Input:0 -> Output is 1 for Normal Operation and 0 for Suspend Refer to (See Datasheet)", 24 OVR#[2] (in) "Active LOW Overcurrent Condition Detection Input. Overcurrent condition detection input for Port 2.", 25 OVR#[1] (in) "Active LOW Overcurrent Condition Detection Input. Overcurrent condition detection input for Port 1.", 26 PWR#/I2C_SDA (io) "Power Switch Driver Output. Default is Active LOW. I2C_SDA: I2C Data pin.", 27 VCC (power) "VCC. 5 V input to the internal regulator; NC if using external regulator", 28 VREG (power) "VCC. 5-3.3 V regulator o/p during internal regulation; 3.3 V I/P if using external regulator", 29 GND_EXP (power) "Ground pin for the chip. It is the solderable exposed pad beneath the chip."

## CY7C65634-28LTXCT
designator U?
IC, USB 2.0 Hub, 1up, 2 down; Manufacturer: Cypress Semiconductor; PackageReference: 28-WFQFN Exposed Pad; PackageDescription: 28-QFN; ComponentLink1Description: Supplier Link; ComponentLink1URL: http://www.digikey.com/product-detail/en/cypress-semiconductor-corp/CY7C65634-28LTXCT/428-3154-1-ND/3131116; Part Number: CY7C65634-28LTXCT
footprint QFN-28_5.1x5.1_EXP (QFN, 28-Leads, Body 5.1x5.1mm, Pitch 0.6mm, Thermal Pad 3.6X3.6mm, IPC Medium Density)
pins: 1 D- (io) "Upstream D- Signal.", 2 D+ (io) "Upstream D+ Signal.", 3 DD-[1] (io) "?Downstream D- Signal.", 4 DD+[1] (io) "Downstream D+ Signal.", 5 VCC_A (power) "VCC_A. 3.3 V analog power to the chip.", 6 DD-[2] (io) "Downstream D- Signal.", 7 DD+[2] (io) "Downstream D+ Signal.", 8 RREF "649 ohm resistor must be connected between RREF and Ground", 9 VCC_A (power) "VCC_A. 3.3 V analog power to the chip.", 10 XIN (in) "12 MHz crystal clock input, or 12 MHz clock input", 11 XOUT "12 MHz Crystal OUT", 12 NC "NC in CY7C65634.", 13 NC "NC in CY7C65634.", 14 VCC_A (power) "VCC_A. 3.3 V analog power to the chip.", 15 NC "NC in CY7C65634.", 16 NC "NC in CY7C65634.", 17 RESET# (in) "Active LOW Reset. External reset input, default pull high 10 kohm; When RESET = low, whole chip is reset to the initial state", 18 TEST/I2C_SCL (io) "?Test: 0: Normal Operation & 1: Chip will be put in test mode I2C_SCL: I2C Clock pin.", 19 NC "NC in CY7C65634.", 20 NC "NC in CY7C65634.", 21 VCC_D (power) "VCC_D. 3.3 V digital power to the chip.", 22 SELFPWR (in) "Self Power. Input for selecting self/bus power. 0 is bus powered, 1 is self powered.", 23 GANG (io) "GANG. Default is input mode after power-on-reset. Gang Mode: Input:1 -> Output is 0 for Normal Operation and 1 for Suspend Individual Mode: Input:0 -> Output is 1 for Normal Operation and 0 for Suspend Refer to (See Datasheet)", 24 OVR#[2] (in) "Active LOW Overcurrent Condition Detection Input. Overcurrent condition detection input for Port 2.", 25 OVR#[1] (in) "Active LOW Overcurrent Condition Detection Input. Overcurrent condition detection input for Port 1.", 26 PWR#/I2C_SDA (io) "Power Switch Driver Output. Default is Active LOW. I2C_SDA: I2C Data pin.", 27 VCC (power) "VCC. 5 V input to the internal regulator; NC if using external regulator", 28 VREG (power) "VCC. 5-3.3 V regulator o/p during internal regulation; 3.3 V I/P if using external regulator", 29 GND_EXP (power) "Ground pin for the chip. It is the solderable exposed pad beneath the chip."

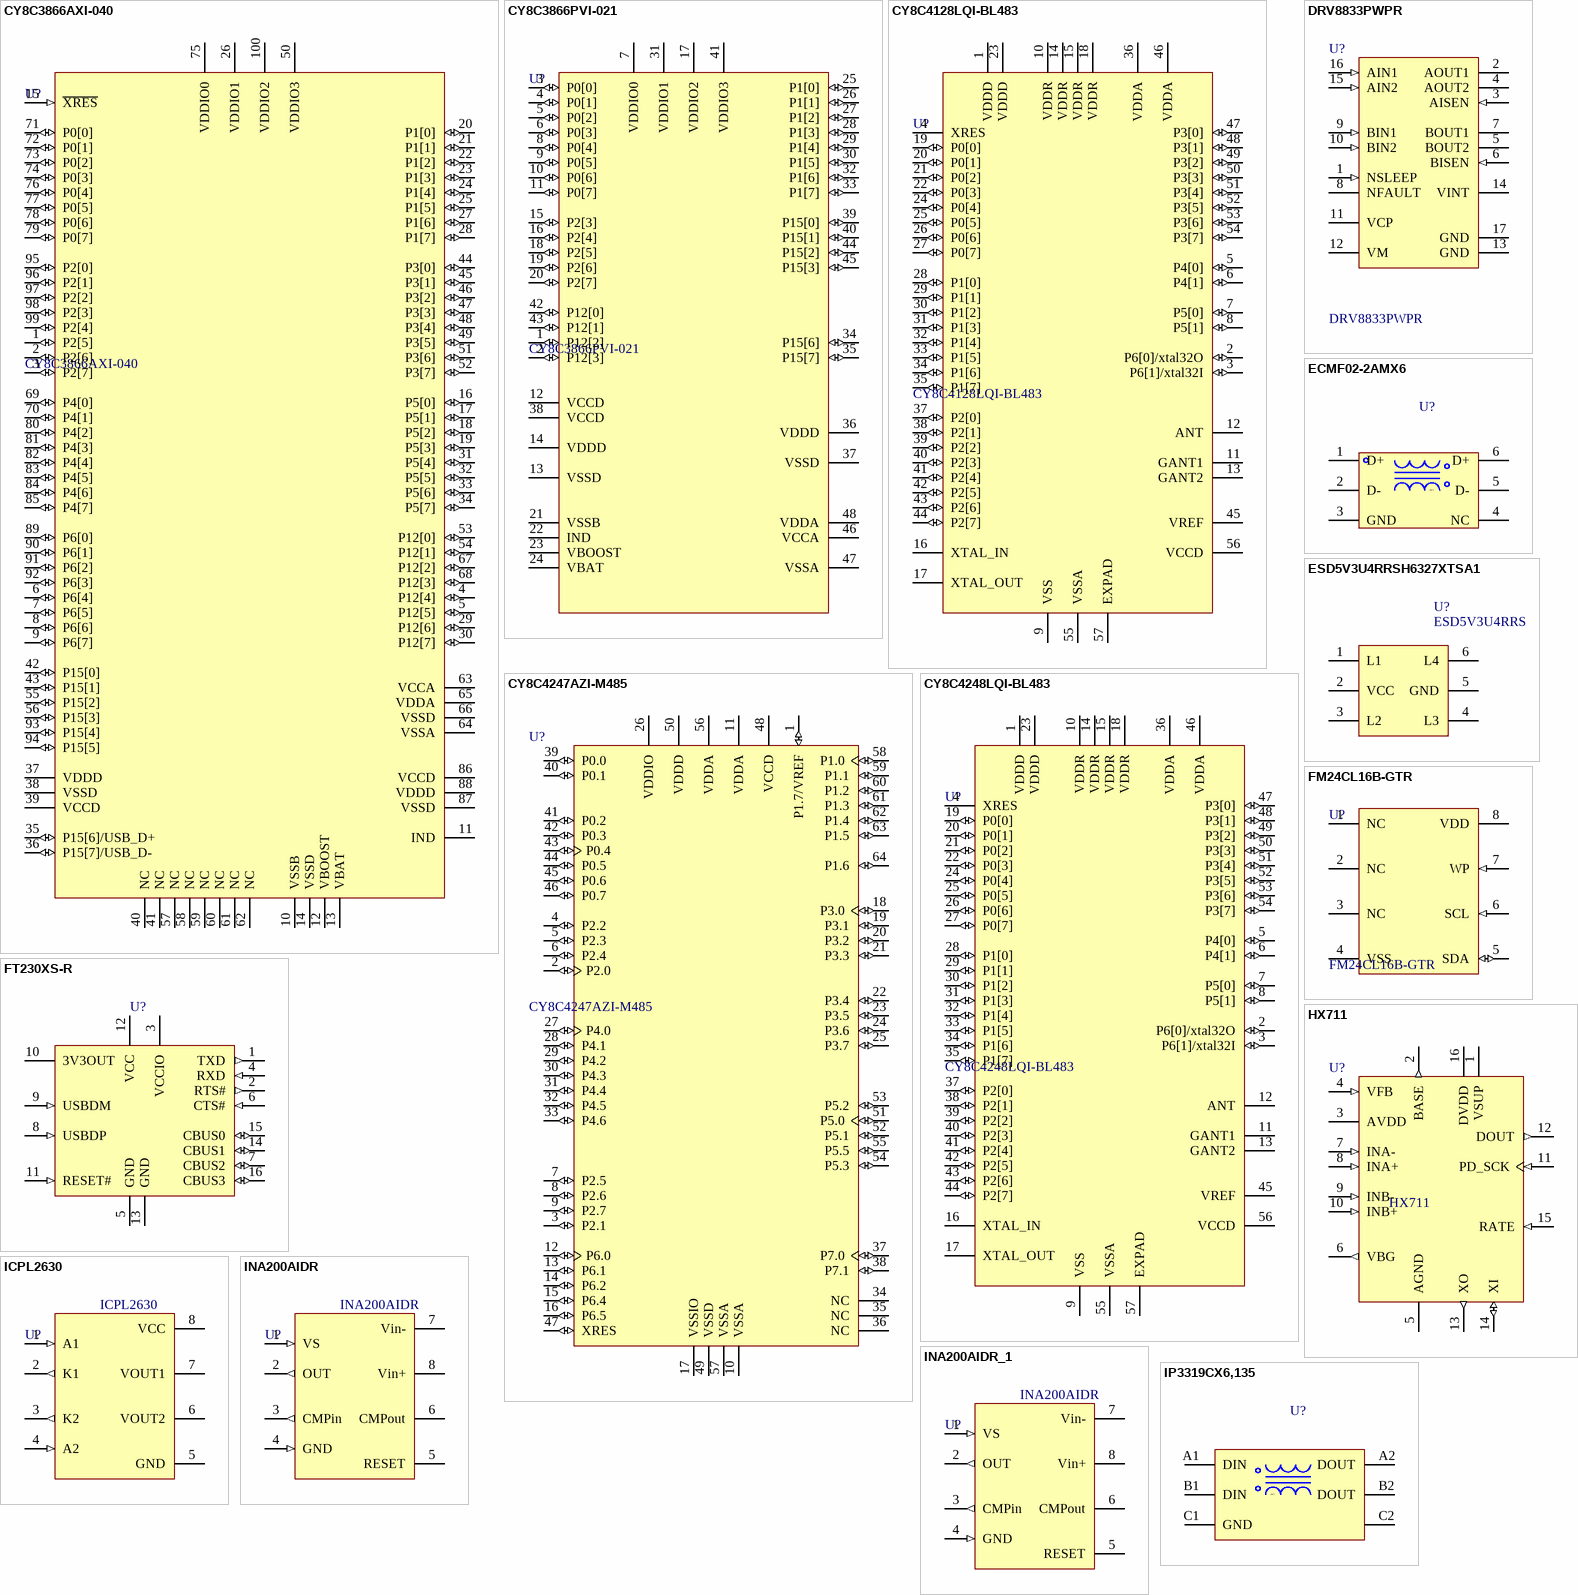
[diagram p2: symbols CY8C3866AXI-040 to IP3319CX6,135]

## CY8C3866AXI-040
designator U?
IC, MCU, PSOC3, 67MHz,  72 I/O, 64KB, 100-pin TQFP; Manufacturer: Cypress Semiconductor; PackageDescription: 100-TQFP; ComponentLink1Description: Supplier Link; ComponentLink1URL: http://www.mouser.com/ProductDetail/Cypress-Semiconductor/CY8C3866AXI-040/?qs=sGAEpiMZZMvqv2n3s2xjscK9TkstoBy%252bCTW3cJXI2CI%3d; HelpURL: http://www.mouser.com/ds/2/100/PSOC_3_CY8C38-186645.pdf; Part Number: CY8C3866AXI-040
footprint TQFP-PT100_CYP-AX100_N (QFN, 100-Leads, Body 14x14mm, Pitch 0.5mm, IPC Medium Density)
pins: 1 P2[5] (io) "GPIO", 2 P2[6] (io) "GPIO", 3 P2[7] (io) "GPIO", 4 P12[4] (io) "I2C0: SCL, SIO", 5 P12[5] (io) "I2C0: SCL, SIO", 6 P6[4] (io) "GPIO", 7 P6[5] (io) "GPIO", 8 P6[6] (io) "GPIO", 9 P6[7] (io) "GPIO", 10 VSSB (power) "Ground connection for boost pump.", 11 IND "Inductor connection to boost pump.", 12 VBOOST (power) "Power sense connection to boost pump.", 13 VBAT (power) "Battery supply to boost pump.", 14 VSSD (power) "Ground for all digital logic and I/O pins.", 15 ~{XRES} (in) "External reset pin. Active low with internal pull-up. Pin P1[2] may be configured to be a XRES pin", 16 P5[0] (io) "GPIO", 17 P5[1] (io) "GPIO", 18 P5[2] (io) "GPIO", 19 P5[3] (io) "GPIO", 20 P1[0] (io) "TMS, SWDIO, GPIO", 21 P1[1] (io) "TCK, SWDCK, GPIO", 22 P1[2] (io) "Configurable X\R\E\S\, GPIO", 23 P1[3] (io) "TDO, SWV, GPIO", 24 P1[4] (io) "TDI, GPIO", 25 P1[5] (io) "nTRST, GPIO", 26 VDDIO1 (power) "Supply for I/O pins. Each VDDIO must be tied to a valid operating voltage (1.71 V to 5.5 V), and must be less than or equal to VDDA.", 27 P1[6] (io) "GPIO", 28 P1[7] (io) "GPIO", 29 P12[6] (io) "SIO", 30 P12[7] (io) "SIO", 31 P5[4] (io) "GPIO", 32 P5[5] (io) "GPIO", 33 P5[6] (io) "GPIO", 34 P5[7] (io) "GPIO", 35 P15[6]/USB_D+ (io) "USBIO, D+, SWDIO", 36 P15[7]/USB_D- (io) "USBIO, D-, SWDCK", 37 VDDD (power) "Supply for all digital peripherals and digital core regulator. VDDD must be less than or equal to VDDA.", 38 VSSD (power) "Ground for all digital logic and I/O pins.", 39 VCCD (power) "Output of the digital core regulator or the input to the digital core. The two VCCD pins must be shorted together, with the trace between them as short as possible, and a 1uF capacitor to VSSD. The regulator output is not (See Datasheet)", 40 NC "No Connection", 41 NC "No Connection", 42 P15[0] (io) "MHZ XTAL: XO, GPIO", 43 P15[1] (io) "MHZ XTAL: XI, GPIO", 44 P3[0] (io) "IDAC1, GPIO", 45 P3[1] (io) "IDAC3, GPIO", 46 P3[2] (io) "OpampP3-/Extref1, GPIO", 47 P3[3] (io) "Opamp3+, GPIO", 48 P3[4] (io) "Opamp1-, GPIO", 49 P3[5] (io) "Opamp1+, GPIO", 50 VDDIO3 (power) "Supply for I/O pins. Each VDDIO must be tied to a valid operating voltage (1.71 V to 5.5 V), and must be less than or equal to VDDA.", 51 P3[6] (io) "GPIO, Opamp1OUT", 52 P3[7] (io) "GPIO, Opamp3OUT", 53 P12[0] (io) "SIO, I2C1: SCL", 54 P12[1] (io) "SIO, I2C1: SDA", 55 P15[2] (io) "GPIO, KHZ XTAL: XO", 56 P15[3] (io) "GPIO, KHZ XTAL: XI", 57 NC "No Connection", 58 NC "No Connection", 59 NC "No Connection", 60 NC "No Connection", 61 NC "No Connection", 62 NC "No Connection", 63 VCCA (power) "Output of the analog core regulator or the input to the analog core. Requires a 1uF capacitor to VSSA. The regulator output is not designed to drive external circuits. Note that if you use the device with an external core (See Datasheet)", 64 VSSA (power) "Ground for all analog peripherals.", 65 VDDA (power) "Supply for all analog peripherals and analog core regulator. VDDA must be the highest voltage present on the device. All other supply pins must be less than or equal to VDDA.", 66 VSSD (power) "Ground for all digital logic and I/O pins.", 67 P12[2] (io) "SIO", 68 P12[3] (io) "SIO", 69 P4[0] (io) "GPIO", 70 P4[1] (io) "GPIO", 71 P0[0] (io) "GPIO, Opamp2OUT", 72 P0[1] (io) "GPIO, Opamp0OUT", 73 P0[2] (io) "GPIO, Opamp0+", 74 P0[3] (io) "GPIO, Opamp0-/Extref0", 75 VDDIO0 (power) "Supply for I/O pins. Each VDDIO must be tied to a valid operating voltage (1.71 V to 5.5 V), and must be less than or equal to VDDA.", 76 P0[4] (io) "GPIO, Opamp2+", 77 P0[5] (io) "GPIO, Opamp2-", 78 P0[6] (io) "GPIO, IDAC0", 79 P0[7] (io) "GPIO, IDAC2", 80 P4[2] (io) "GPIO", 81 P4[3] (io) "GPIO", 82 P4[4] (io) "GPIO", 83 P4[5] (io) "GPIO", 84 P4[6] (io) "GPIO", 85 P4[7] (io) "GPIO", 86 VCCD (power) "Output of the digital core regulator or the input to the digital core. The two VCCD pins must be shorted together, with the trace between them as short as possible, and a 1uF capacitor to VSSD. The regulator output is not (See Datasheet)", 87 VSSD (power) "Ground for all digital logic and I/O pins.", 88 VDDD (power) "Supply for all digital peripherals and digital core regulator. VDDD must be less than or equal to VDDA.", 89 P6[0] (io) "GPIO", 90 P6[1] (io) "GPIO", 91 P6[2] (io) "GPIO", 92 P6[3] (io) "GPIO", 93 P15[4] (io) "GPIO", 94 P15[5] (io) "GPIO", 95 P2[0] (io) "GPIO", 96 P2[1] (io) "GPIO", 97 P2[2] (io) "GPIO", 98 P2[3] (io) "GPIO", 99 P2[4] (io) "GPIO", 100 VDDIO2 (power) "Supply for I/O pins. Each VDDIO must be tied to a valid operating voltage (1.71 V to 5.5 V), and must be less than or equal to VDDA."

## CY8C3866PVI-021
designator U?
IC, MCU, PSOC3, 67MHz,  28 I/O, 64KB, 48-pin SSOP; Manufacturer: Cypress Semiconductor; PackageDescription: IC MCU 8BIT 64KB FLASH 48SSOP; ComponentLink1Description: Supplier Link; ComponentLink1URL: http://www.mouser.com/ProductDetail/Cypress-Semiconductor/CY8C3866PVI-021/?qs=sGAEpiMZZMvqv2n3s2xjscK9TkstoBy%252buoVWcZtohHU%3d; HelpURL: http://www.cypress.com/file/127111/download; Part Number: CY8C3866PVI-021
footprint TSSOP-48_CYP-PV48_L (SOP, 48-Leads, Body 15.875x7.5057mm, Pitch 0.635mm, IPC High Density)
pins: 1 P12[2] (io) "SIO", 2 P12[3] (io) "SIO", 3 P0[0] (io) "Opamp2OUT, GPIO", 4 P0[1] (io) "Opamp0OUT, GPIO", 5 P0[2] (io) "Opamp0+, GPIO", 6 P0[3] (io) "Opamp0-/Extref0, GPIO", 7 VDDIO0 (power) "Supply for I/O pins", 8 P0[4] (io) "Opamp2+, GPIO", 9 P0[5] (io) "Opamp2-, GPIO", 10 P0[6] (io) "IDAC0, GPIO", 11 P0[7] (io) "IDAC2, GPIO", 12 VCCD (power) "Output of the digital core regulator or the input to the digital core", 13 VSSD (power) "Ground for all digital logic and I/O pins", 14 VDDD (power) "Supply for all digital peripherals and digital core regulator", 15 P2[3] (io) "GPIO", 16 P2[4] (io) "GPIO", 17 VDDIO2 (power) "Supply for I/O pins", 18 P2[5] (io) "GPIO", 19 P2[6] (io) "GPIO", 20 P2[7] (io) "GPIO", 21 VSSB (power) "Ground connection for boost pump", 22 IND "Inductor connection to boost pump", 23 VBOOST (power) "Power sense connection to boost pump", 24 VBAT (power) "Battery supply to boost pump", 25 P1[0] (io) "GPIO, TMS, SWDIO", 26 P1[1] (io) "GPIO, TCK, SWDCK", 27 P1[2] (io) "GPIO, Configurable X\R\E\S\", 28 P1[3] (io) "GPIO, TDO, SWV", 29 P1[4] (io) "GPIO, TDI", 30 P1[5] (io) "GPIO, nTRST", 31 VDDIO1 (power) "Supply for I/O pins", 32 P1[6] (io) "GPIO", 33 P1[7] (io) "GPIO", 34 P15[6] (io) "USBIO, D+, SWDIO", 35 P15[7] (io) "USBIO, D-, SWDCK", 36 VDDD (power) "Supply for all digital peripherals and digital core regulator", 37 VSSD (power) "Ground for all digital logic and I/O pins", 38 VCCD (power) "Output of the digital core regulator or the input to the digital core", 39 P15[0] (io) "GPIO, MHZ XTAL: XO", 40 P15[1] (io) "GPIO, MHZ XTAL: XI", 41 VDDIO3 (power) "Supply for I/O pins", 42 P12[0] (io) "SIO, I2C1: SCL", 43 P12[1] (io) "SIO, I2C1: SDA", 44 P15[2] (io) "GPIO, KHZ XTAL: XO", 45 P15[3] (io) "GPIO, KHZ XTAL: XI", 46 VCCA (power) "Output of the analog core regulator or the input to the analog core", 47 VSSA (power) "Ground for all analog peripherals", 48 VDDA (power) "Supply for all analog peripherals and analog core regulator"

## CY8C4128LQI-BL483
designator U?
IC, MCU, PSOC4, 24MHz,  36 I/O, 256KB, 56-pin QFN; Manufacturer: Cypress Semiconductor; PackageReference: QFN; PackageDescription: 56-QFN; ComponentLink1Description: Supplier Link; ComponentLink1URL: http://www.digikey.com/products/en?keywords=CY8C4128LQI-BL483; HelpURL: http://www.cypress.com/file/175646/download; Part Number: CY8C4128LQI-BL483
footprint QFN_CYP-LQX56_M (QFN, 56-Leads, Body 7x7mm, Pitch 0.4mm, Thermal Pad 5.6x5.6mm, IPC Low Density)
pins: 1 VDDD (power) "Supply voltage", 2 P6[0]/xtal32O (io), 3 P6[1]/xtal32I (io), 4 XRES, 5 P4[0] (io), 6 P4[1] (io), 7 P5[0] (io), 8 P5[1] (io), 9 VSS (power) "GND", 10 VDDR (power) "Supply voltage", 11 GANT1, 12 ANT, 13 GANT2, 14 VDDR (power), 15 VDDR (power), 16 XTAL_IN, 17 XTAL_OUT, 18 VDDR (power), 19 P0[0] (io), 20 P0[1] (io), 21 P0[2] (io), 22 P0[3] (io), 23 VDDD (power), 24 P0[4] (io), 25 P0[5] (io), 26 P0[6] (io), 27 P0[7] (io), 28 P1[0] (io), 29 P1[1] (io), 30 P1[2] (io), 31 P1[3] (io), 32 P1[4] (io), 33 P1[5] (io), 34 P1[6] (io), 35 P1[7] (io), 36 VDDA (power), 37 P2[0] (io), 38 P2[1] (io), 39 P2[2] (io), 40 P2[3] (io), 41 P2[4] (io), 42 P2[5] (io), 43 P2[6] (io), 44 P2[7] (io), 45 VREF, 46 VDDA (power), 47 P3[0] (io), 48 P3[1] (io), 49 P3[2] (io), 50 P3[3] (io), 51 P3[4] (io), 52 P3[5] (io), 53 P3[6] (io), 54 P3[7] (io), 55 VSSA (power), 56 VCCD (power), 57 EXPAD (power) "EXPOSED GND PAD"

## CY8C4247AZI-M485
designator U?
IC, MCU, PSOC4, 32BIT 128KB FLASH 64TQFP; Manufacturer: Cypress Semiconductor; PackageDescription: 64TQFP; ComponentLink1Description: Supplier Link; ComponentLink1URL: http://www.digikey.com/products/en?keywords=CY8C4247azim485; Part Number: CY8C4247AZI-M485
footprint TQFP-64_CYP-AZ64_N (QFP, 64-Leads, Body 10x10mm, Pitch 0.5mm, IPC Medium Density)
pins: 1 P1.7/VREF (io), 2 P2.0 (io), 3 P2.1 (io), 4 P2.2 (io), 5 P2.3 (io), 6 P2.4 (io), 7 P2.5 (io), 8 P2.6 (io), 9 P2.7 (io), 10 VSSA (power) "Analog ground pin where package pins allow; shorted to VSS otherwise", 11 VDDA (power) "Analog VDD pin where package pins allow; shorted to VDDD otherwise.", 12 P6.0 (io), 13 P6.1 (io), 14 P6.2 (io), 15 P6.4 (io), 16 P6.5 (io), 17 VSSIO (power), 18 P3.0 (io), 19 P3.1 (io), 20 P3.2 (io), 21 P3.3 (io), 22 P3.4 (io), 23 P3.5 (io), 24 P3.6 (io), 25 P3.7 (io), 26 VDDIO (power) "I/O pin power domain.", 27 P4.0 (io), 28 P4.1 (io), 29 P4.2 (io), 30 P4.3 (io), 31 P4.4 (io), 32 P4.5 (io), 33 P4.6 (io), 34 NC, 35 NC, 36 NC, 37 P7.0 (io), 38 P7.1 (io), 39 P0.0 (io), 40 P0.1 (io), 41 P0.2 (io), 42 P0.3 (io), 43 P0.4 (io), 44 P0.5 (io), 45 P0.6 (io), 46 P0.7 (io), 47 XRES (io), 48 VCCD (power) "Regulated Digital supply (1.8 V ±5%).", 49 VSSD (power), 50 VDDD (power) "Power supply for both analog and digital sections (where there is no VDDA pin).", 51 P5.0 (io), 52 P5.1 (io), 53 P5.2 (io), 54 P5.3 (io), 55 P5.5 (io), 56 VDDA (power) "Analog VDD pin where package pins allow; shorted to VDDD otherwise.", 57 VSSA (power) "Analog ground pin where package pins allow; shorted to VSS otherwise", 58 P1.0 (io), 59 P1.1 (io), 60 P1.2 (io), 61 P1.3 (io), 62 P1.4 (io), 63 P1.5 (io), 64 P1.6 (io)

## CY8C4248LQI-BL483
designator U?
IC, MCU, PSOC4, 48MHz,  36 I/O, 256KB, 56-pin QFN; Manufacturer: Cypress Semiconductor; PackageDescription: 56-QFN; ComponentLink1Description: Supplier Link; ComponentLink1URL: http://www.digikey.com/products/en?keywords=CY8C4248LQI-BL483; HelpURL: http://www.cypress.com/file/175646/download; Part Number: CY8C4248LQI-BL483
footprint QFN_CYP-LQX56_M (QFN, 56-Leads, Body 7x7mm, Pitch 0.4mm, Thermal Pad 5.6x5.6mm, IPC Low Density)
pins: 1 VDDD (power) "Supply voltage", 2 P6[0]/xtal32O (io), 3 P6[1]/xtal32I (io), 4 XRES, 5 P4[0] (io), 6 P4[1] (io), 7 P5[0] (io), 8 P5[1] (io), 9 VSS (power) "GND", 10 VDDR (power) "Supply voltage", 11 GANT1, 12 ANT, 13 GANT2, 14 VDDR (power), 15 VDDR (power), 16 XTAL_IN, 17 XTAL_OUT, 18 VDDR (power), 19 P0[0] (io), 20 P0[1] (io), 21 P0[2] (io), 22 P0[3] (io), 23 VDDD (power), 24 P0[4] (io), 25 P0[5] (io), 26 P0[6] (io), 27 P0[7] (io), 28 P1[0] (io), 29 P1[1] (io), 30 P1[2] (io), 31 P1[3] (io), 32 P1[4] (io), 33 P1[5] (io), 34 P1[6] (io), 35 P1[7] (io), 36 VDDA (power), 37 P2[0] (io), 38 P2[1] (io), 39 P2[2] (io), 40 P2[3] (io), 41 P2[4] (io), 42 P2[5] (io), 43 P2[6] (io), 44 P2[7] (io), 45 VREF, 46 VDDA (power), 47 P3[0] (io), 48 P3[1] (io), 49 P3[2] (io), 50 P3[3] (io), 51 P3[4] (io), 52 P3[5] (io), 53 P3[6] (io), 54 P3[7] (io), 55 VSSA (power), 56 VCCD (power), 57 EXPAD (power) "EXPOSED GND PAD"

## DRV8833PWPR
designator U?
IC, Motor Driver, Full/Half Bridge, 16HTSSOP; Manufacturer: Texas Instruments; PackageReference: 16HTSSOP; PackageDescription: IC MOTOR DRIVER PAR 16HTSSOP; ComponentLink1Description: Supplier Link; ComponentLink1URL: http://www.digikey.com/product-detail/en/texas-instruments/DRV8833PWPR/296-29434-1-ND/2743171; HelpURL: http://www.ti.com/lit/ds/symlink/drv8833.pdf; Part Number: DRV8833PWPR
footprint TSSOP-16 2.46x2.31 (SOP, 16-Leads, Body 5.1x4.5mm, Pitch 0.65mm, Thermal Pad 2.46x2.31mm, IPC Low Density)
pins: 1 NSLEEP (in) "Sleep mode input", 2 AOUT1 (hiz) "Bridge A output 1", 3 AISEN (in) "Bridge A ground / Isense", 4 AOUT2 (hiz) "Bridge A output 2", 5 BOUT2 (hiz) "Bridge B output 2", 6 BISEN (in) "Bridge B ground / Isense", 7 BOUT1 (hiz) "Bridge B output 1", 8 NFAULT (oc) "Fault output", 9 BIN1 (in) "Bridge B input 1", 10 BIN2 (in) "Bridge B input 2", 11 VCP "High-side gate drive voltage", 12 VM (power) "Device power supply", 13 GND (power) "Device ground", 14 VINT "Internal supply bypass", 15 AIN2 (in) "Bridge A input 2", 16 AIN1 (in) "Bridge A input 1", 17 GND (power) "Device ground"

## ECMF02-2AMX6
designator U?  (value not drawn)
IC, Common Mode Filter + TVS, 2 USB Data Lines, Bi-directional; Manufacturer: STMicroelectronics; ComponentLink1Description: Supplier Link; ComponentLink1URL: http://www.digikey.com/product-detail/en/stmicroelectronics/ECMF02-2AMX6/497-10773-1-ND/2440287; HelpURL: http://www.st.com/web/en/resource/technical/document/datasheet/CD00282307.pdf; PackageDescription: CMC 200MA 2LN SMD ESD; PackageReference: MX6; Part Number: ECMF02-2AMX6
footprint QFNu-6L (QFN micro 6 pin.)
pins: 1 D+, 2 D-, 3 GND, 4 NC, 5 D-, 6 D+
text: SMT